# Altium schematic symbol library Debug Pinborad.SCHLIB: 22 symbols
Pins are listed as number, name and electrical type; pins without a type are passive.

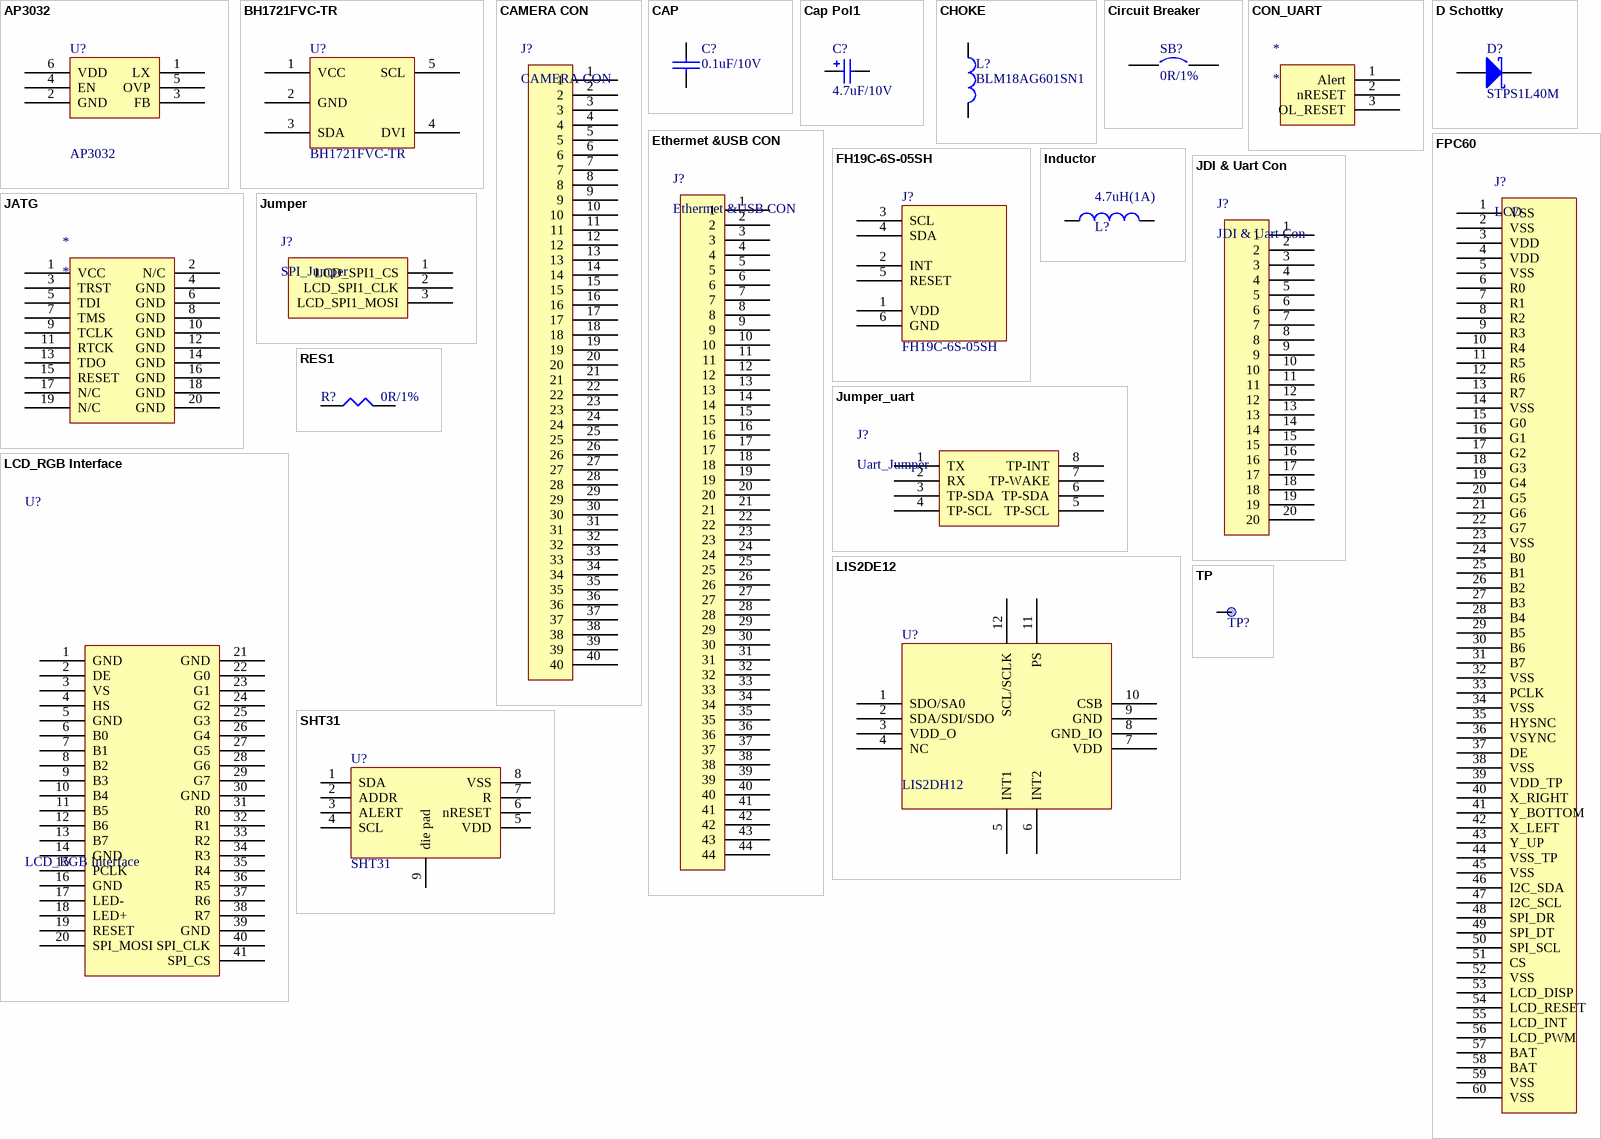
[diagram p0: symbols AP3032 to TP]

## AP3032
designator U?
Manuf_Part_1: STLD40DPUR; Ordered by: ST; Ref St: 9176009; ECCN_US/EU: EAR99/NEC; Manuf_1: ST
footprint QFN8 (Footprint not found)
footprint QFNT8
footprint SON8_0R65_3X3 (Footprint not found)
footprint SON8_0R65_3X3_ST (Footprint not found)
pins: 1 LX, 2 GND, 3 FB, 4 EN, 5 OVP, 6 VDD

## BH1721FVC-TR
designator U?
footprint WSOF5 (SOT23, 5-Leads, Body 1.6x1.6mm (max), Pitch 0.50mm, IPC Medium Density)
pins: 1 VCC, 2 GND, 3 SDA, 4 DVI, 5 SCL

## CAMERA CON
designator J?
pins: 1, 2, 3, 4, 5, 6, 7, 8, 9, 10, 11, 12, 13, 14, 15, 16, 17, 18, 19, 20, 21, 22, 23, 24, 25, 26, 27, 28, 29, 30, 31, 32, 33, 34, 35, 36, 37, 38, 39, 40

## CAP
designator C?, comment 0.1uF/10V
厂家：Murata，型号：GRM155R71A104KA01D
footprint 0603C
footprint 0402C
footprint 0603C
footprint 0402C
pins: 1, 2
2 alternate drawings of the same symbol

## Cap Pol1
designator C?, comment 4.7uF/10V
Value: 100pF; Ordered by: Subcon; Published: 8-Jun-2000; Revision: July-2002: Re-released for DXP Platform.; Publisher: Altium Limited
footprint TAN-A (Footprint not found)
simulation model CAP (Capacitor)
signal-integrity model Cap Pol
footprint CAPPR1.5-4X5
footprint CAPPR1.27-1.96X4.06
footprint CAPPR2-5X6.8
footprint CAPPR5-5X5
footprint CAPPR7.5-16X35
footprint 3225C
footprint 1206
pins: 1, 2

## CHOKE
designator L?, comment BLM18AG601SN1
厂家：MURATA，型号：BLM18AG601SN1
footprint SM/L_0805_L
footprint SM/R_1206
footprint 1206
footprint 0805
footprint 0805
footprint 2520
footprint 2520 TOKO
footprint 0603R
pins: 1, 2

## Circuit Breaker
designator SB?, comment 0R/1%
Circuit Breaker; Ordered by: Subcon; Comments: Solder bridge; Fitted: NO; Published: 24-Mar-1999; Revision: July-2002: Re-released for DXP Platform.; Publisher: Altium Limited
footprint SPST-2 (Circuit Breaker; 2 Leads)
footprint JP2_SMD
footprint SB_0603
pins: 1, 2

## CON_UART
designator *
pins: 1 Alert, 2 nRESET, 3 OL_RESET

## D Schottky
designator D?, comment STPS1L40M
Schottky Diode; Code - JEDEC: DO-214-AA; Ordered by: ST; Ref St: 9151085; ECCN_US/EU: EAR99/NEC; Published: 8-Jun-2000; Revision: July-2002: Re-released for DXP Platform.; Publisher: Altium Limited; Manuf_1: ST; Manuf_Part_1: STPS1L40M
footprint 1R1C (Footprint not found)
footprint DO216AA
footprint DO-216AA (Footprint not found)
pins: 1 A, 2 K

## Ethermet &USB CON
designator J?
pins: 1, 2, 3, 4, 5, 6, 7, 8, 9, 10, 11, 12, 13, 14, 15, 16, 17, 18, 19, 20, 21, 22, 23, 24, 25, 26, 27, 28, 29, 30, 31, 32, 33, 34, 35, 36, 37, 38, 39, 40, 41, 42, 43, 44

## FH19C-6S-05SH
designator J?
ZIF connector placed bottom side; Manuf_1: ATOM; Manuf_2: Hirose; Manuf_Part_1: FPC05006-09200; Ordered by: Subcon; Silkscreen: TS; Manuf_Part_2: FH19C-6S-05SH
footprint FH19C-6S-05SH (Footprint not found)
footprint FH19C-6S-0R5SH_FPC_CPT
pins: 1 VDD, 2 INT, 3 SCL, 4 SDA, 5 RESET, 6 GND

## FPC60
designator J?, comment LCD
pins: 1 VSS, 2 VSS, 3 VDD, 4 VDD, 5 VSS, 6 R0, 7 R1, 8 R2, 9 R3, 10 R4, 11 R5, 12 R6, 13 R7, 14 VSS, 15 G0, 16 G1, 17 G2, 18 G3, 19 G4, 20 G5, 21 G6, 22 G7, 23 VSS, 24 B0, 25 B1, 26 B2, 27 B3, 28 B4, 29 B5, 30 B6, 31 B7, 32 VSS, 33 PCLK, 34 VSS, 35 HYSNC, 36 VSYNC, 37 DE, 38 VSS, 39 VDD_TP, 40 X_RIGHT, 41 Y_BOTTOM, 42 X_LEFT, 43 Y_UP, 44 VSS_TP, 45 VSS, 46 I2C_SDA, 47 I2C_SCL, 48 SPI_DR, 49 SPI_DT, 50 SPI_SCL, 51 CS, 52 VSS, 53 LCD_DISP, 54 LCD_RESET, 55 LCD_INT, 56 LCD_PWM, 57 BAT, 58 BAT, 59 VSS, 60 VSS

## Inductor
designator L?, comment 4.7uH(1A)
Inductor; Value: 100uH; Ordered by: Subcon; Published: 8-Jun-2000; Revision: July-2002: Re-released for DXP Platform.; Publisher: Altium Limited
footprint 3225 (Footprint not found)
footprint 3225L
footprint LSM2_3R2X2R5_H1R55 (Footprint not found)
footprint 1210L (Footprint not found)
pins: 1, 2

## JATG
designator *
pins: 1 VCC, 2 N/C, 3 TRST, 4 GND, 5 TDI, 6 GND, 7 TMS, 8 GND, 9 TCLK, 10 GND, 11 RTCK, 12 GND, 13 TDO, 14 GND, 15 RESET, 16 GND, 17 N/C, 18 GND, 19 N/C, 20 GND

## JDI & Uart Con
designator J?
pins: 1, 2, 3, 4, 5, 6, 7, 8, 9, 10, 11, 12, 13, 14, 15, 16, 17, 18, 19, 20

## Jumper
designator J?, comment SPI_Jumper
Jumper
pins: 1 LCD_SPI1_CS, 2 LCD_SPI1_CLK, 3 LCD_SPI1_MOSI

## Jumper_uart
designator J?, comment Uart_Jumper
Jumper
pins: 1 TX, 2 RX, 3 TP-SDA, 4 TP-SCL, 5 TP-SCL, 6 TP-SDA, 7 TP-WAKE, 8 TP-INT

## LCD_RGB Interface
designator U?
pins: 1 GND, 2 DE, 3 VS, 4 HS, 5 GND, 6 B0, 7 B1, 8 B2, 9 B3, 10 B4, 11 B5, 12 B6, 13 B7, 14 GND, 15 PCLK, 16 GND, 17 LED-, 18 LED+, 19 RESET, 20 SPI_MOSI, 21 GND, 22 G0, 23 G1, 24 G2, 25 G3, 26 G4, 27 G5, 28 G6, 29 G7, 30 GND, 31 R0, 32 R1, 33 R2, 34 R3, 35 R4, 36 R5, 37 R6, 38 R7, 39 GND, 40 SPI_CLK, 41 SPI_CS

## LIS2DE12
designator U?, comment LIS2DH12
厂家：ST，型号：LIS2DH12
pins: 1 SDO/SA0, 2 SDA/SDI/SDO, 3 VDD_O, 4 NC, 5 INT1, 6 INT2, 7 VDD, 8 GND_IO, 9 GND, 10 CSB, 11 PS, 12 SCL/SCLK

## RES1
designator R?, comment 0R/1%
厂家：Yageo，型号：RC0402FR-0710KL
footprint 0402R
footprint 0603C
footprint 0603R
footprint 0402R
pins: 1, 2
2 alternate drawings of the same symbol

## SHT31
designator U?
厂家：盛思睿，型号：SHT31
footprint DFN3*3
footprint DFN (QFN, 8-Leads, Body 2.6x2.6mm (max), Pitch 0.50mm, IPC Medium Density)
pins: 1 SDA, 2 ADDR, 3 ALERT, 4 SCL, 5 VDD, 6 nRESET, 7 R, 8 VSS, 9 die pad

## TP
designator TP?  (value not drawn)
Ordered by: Subcon
footprint TP (Footprint not found)
footprint round1mm
footprint TP_C40
pins: 1